# EAGLE library part SG3525 (library irs)
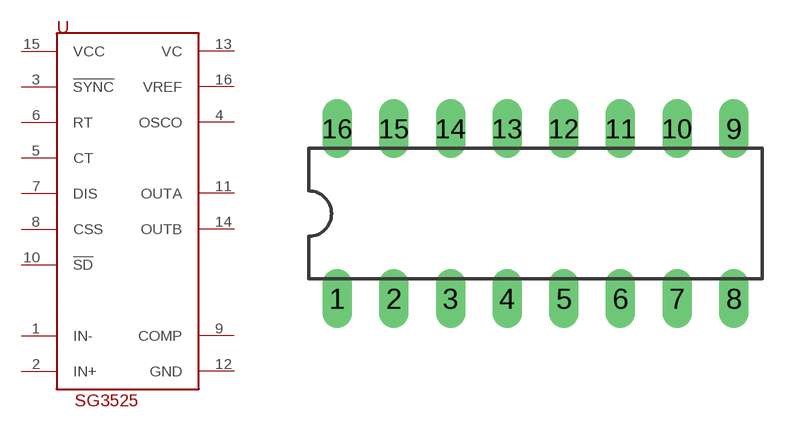
[diagram p19: symbol with the pads of DIL16; footprint DIL16]

Designator prefix -

## SG3525N  [DIL16]
1  IN-  sup
2  IN+  out
3  !SYNC  out
4  OSCO  out
5  CT  in
6  RT  out
7  DIS  out
8  CSS  sup
9  COMP  sup
10  !SD  in
11  OUTA  sup
12  GND  sup
13  VC  sup
14  OUTB  sup
15  VCC  sup
16  VREF  sup

## Footprint DIL16 (pad centres in mm)
Dual In Line Package
drill 0.813 long: 1 -8.89,-3.81; 2 -6.35,-3.81; 3 -3.81,-3.81; 4 -1.27,-3.81; 5 1.27,-3.81; 6 3.81,-3.81; 7 6.35,-3.81; 8 8.89,-3.81; 9 8.89,3.81; 10 6.35,3.81; 11 3.81,3.81; 12 1.27,3.81; 13 -1.27,3.81; 14 -3.81,3.81; 15 -6.35,3.81; 16 -8.89,3.81